# Altium schematic symbol library Miscellaneous Devices.SchLib: 205 symbols (part 3 of 3)
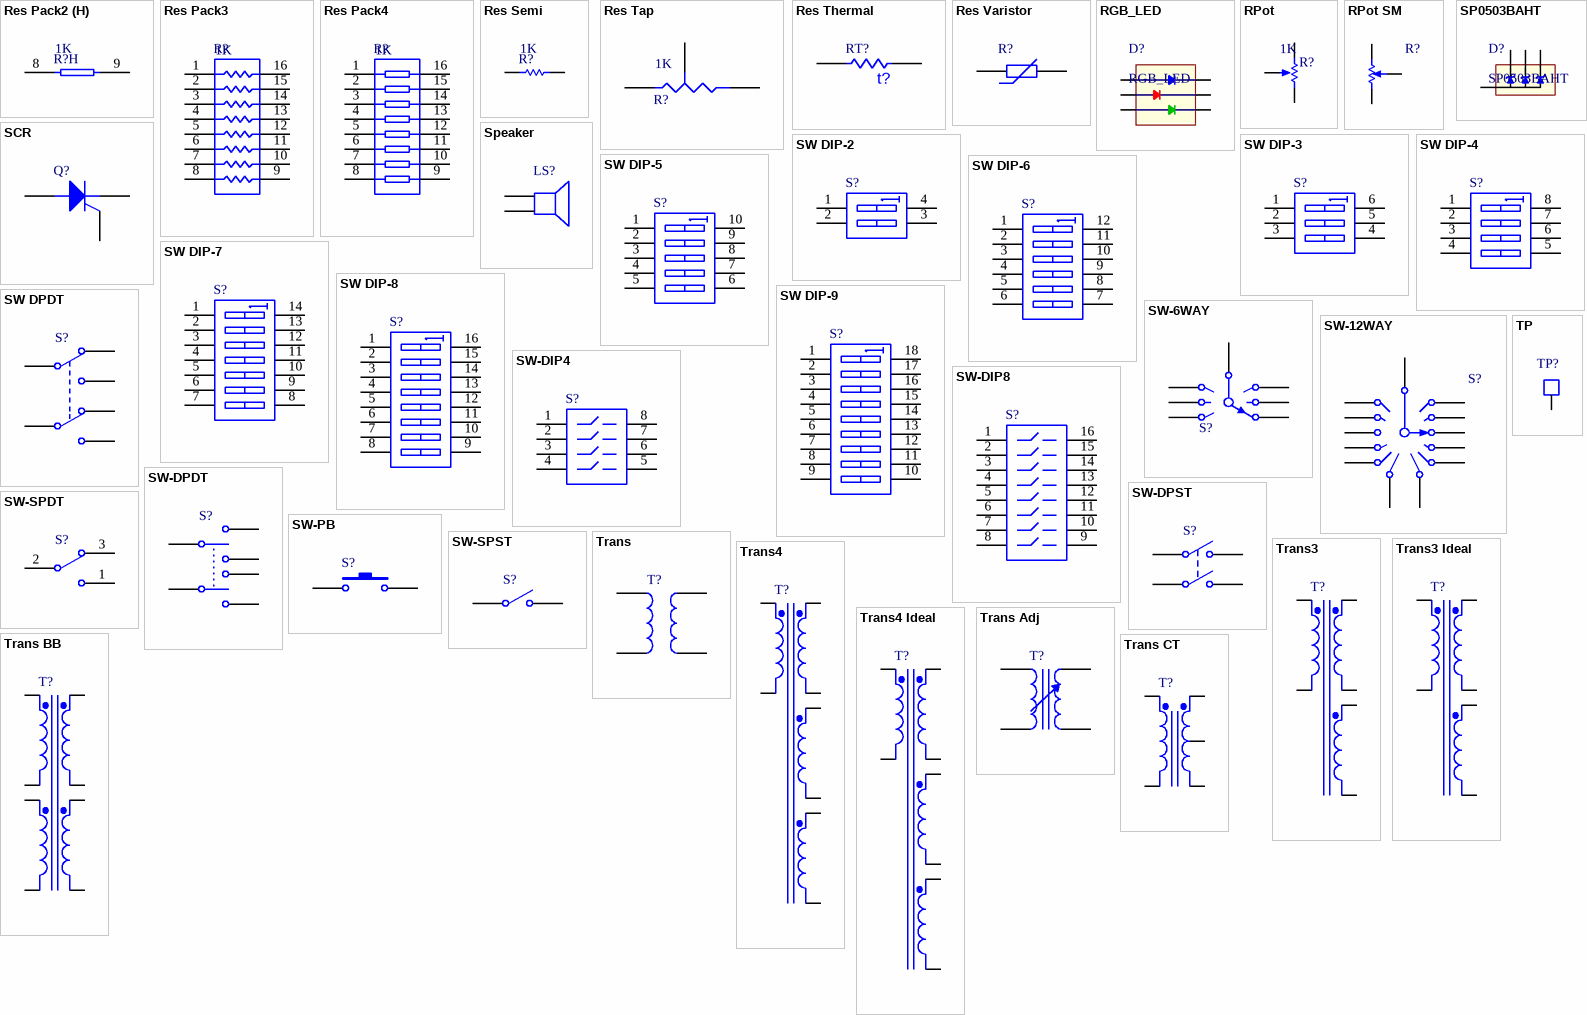
[diagram p7: symbols Res Pack2 to Trans CT]

## Trans3 Ideal
designator T?
Three-winding Transformer (Ideal); Published: 25-Jan-2001; LatestRevisionDate: 17-Jul-2002; LatestRevisionNote: Re-released for DXP Platform.; PackageReference: TRF_6; Publisher: Altium Limited; PackageDescription: Transformer; 6 Leads
footprint TRF_6 (Transformer; 6 Leads)
simulation model IDEAL3W (Spice Subcircuit)
pins: 1 Pri+, 2 Pri-, 3 Sec1+, 4 Sec1-, 5 Sec2+, 6 Sec2-

## Trans4
designator T?
Four-winding Transformer (Non-Ideal); Sim Note: Enter the turns ratios, Core loss resistance, Magnetising Reactance, Leakage Reactances and Resistances referred to the primary side into the parameter fields.; Published: 25-Jan-2001; LatestRevisionDate: 17-Jul-2002; LatestRevisionNote: Re-released for DXP Platform.; PackageReference: TRF_8; Publisher: Altium Limited; PackageDescription: Transformer; 8 Leads
footprint TRF_8 (Transformer; 8 Leads)
simulation model NI4WTRANS (Spice Subcircuit)
pins: 1 Pri+, 2 Pri-, 3 Sec1+, 4 Sec1-, 5 Sec2+, 6 Sec2-, 7 Sec3+, 8 Sec3-

## Trans4 Ideal
designator T?
Four-winding Transformer (Ideal); Published: 25-Jan-2001; LatestRevisionDate: 17-Jul-2002; LatestRevisionNote: Re-released for DXP Platform.; PackageReference: TRF_8; Publisher: Altium Limited; PackageDescription: Transformer; 8 Leads
footprint TRF_8 (Transformer; 8 Leads)
simulation model IDEAL4W (Spice Subcircuit)
pins: 1 Pri+, 2 Pri-, 3 Sec1+, 4 Sec1-, 5 Sec2+, 6 Sec2-, 7 Sec3+, 8 Sec3-

## Trans Adj
designator T?
Variable Transformer; Published: 24-Mar-1999; LatestRevisionDate: 17-Jul-2002; LatestRevisionNote: Re-released for DXP Platform.; PackageReference: TRF_4; Publisher: Altium Limited; PackageDescription: Transformer; 4 Leads
footprint TRF_4 (Transformer; 4 Leads)
simulation model TRANSFORMER (Transformer)
pins: 1, 2, 3, 4

## Trans BB
designator T?
Buck-boost Transformer (Ideal); Published: 25-Jan-2001; LatestRevisionDate: 17-Jul-2002; LatestRevisionNote: Re-released for DXP Platform.; PackageReference: TRF_8; Publisher: Altium Limited; PackageDescription: Transformer; 8 Leads
footprint TRF_8 (Transformer; 8 Leads)
simulation model IDEAL4W (Spice Subcircuit)
pins: 1 Pri1+, 2 Pri1-, 3 Pri2+, 4 Pri2-, 5 Sec1+, 6 Sec1-, 7 Sec2+, 8 Sec2-

## Trans CT
designator T?
Center-Tapped Transformer (Coupled Inductor Model); Published: 8-Jun-2000; LatestRevisionDate: 17-Jul-2002; LatestRevisionNote: Re-released for DXP Platform.; PackageReference: TRF_5; Publisher: Altium Limited; PackageDescription: Transformer; 5 Leads
footprint TRF_5 (Transformer; 5 Leads)
simulation model TRANSFORMER (Transformer)
pins: 1 Pri+, 2 Pri-, 3 Sec+, 4 SecCT, 5 Sec-

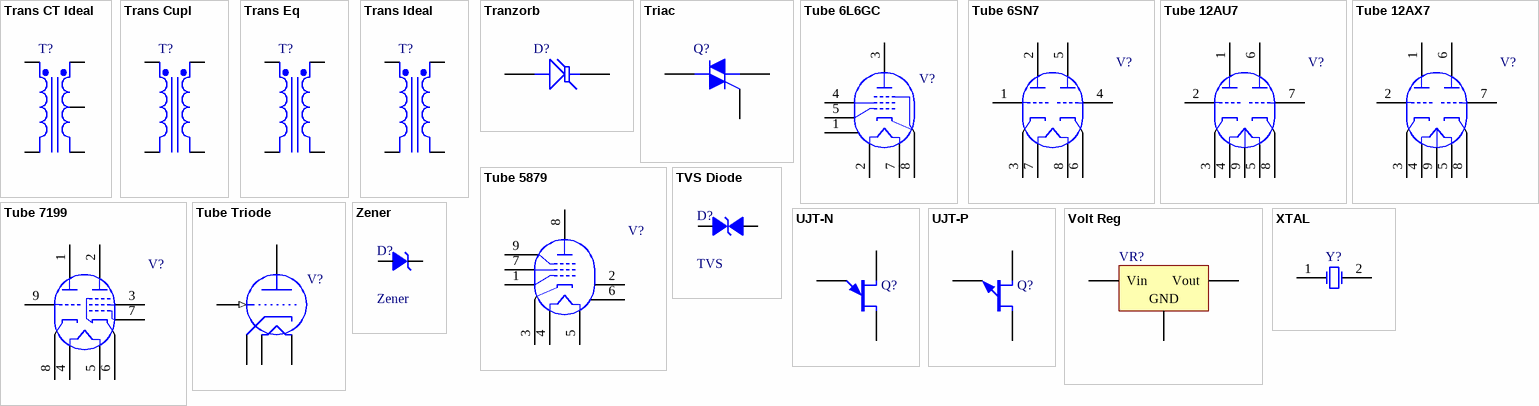
[diagram p5: symbols Trans CT Ideal to Zener]

## Trans CT Ideal
designator T?
Center-Tapped Transformer (Ideal); Published: 8-Jun-2000; LatestRevisionDate: 17-Jul-2002; LatestRevisionNote: Re-released for DXP Platform.; PackageReference: TRF_5; Publisher: Altium Limited; PackageDescription: Transformer; 5 Leads
footprint TRF_5 (Transformer; 5 Leads)
simulation model IDEALTRANSCT (Spice Subcircuit)
pins: 1 Pri+, 2 Pri-, 3 Sec+, 4 SecCT, 5 Sec-

## Trans Cupl
designator T?
Transformer (Coupled Inductor Model); Published: 8-Jun-2000; LatestRevisionDate: 17-Jul-2002; LatestRevisionNote: Re-released for DXP Platform.; PackageReference: TRF_4; Publisher: Altium Limited; PackageDescription: Transformer; 4 Leads
footprint TRF_4 (Transformer; 4 Leads)
simulation model TRANSFORMER (Transformer)
pins: 1 Pri+, 2 Pri-, 3 Sec+, 4 Sec-

## Trans Eq
designator T?
Transformer (Equivalent Circuit Model); Published: 8-Jun-2000; LatestRevisionDate: 17-Jul-2002; LatestRevisionNote: Re-released for DXP Platform.; PackageReference: TRF_4; Publisher: Altium Limited; PackageDescription: Transformer; 4 Leads
footprint TRF_4 (Transformer; 4 Leads)
simulation model TRANS (Spice Subcircuit)
pins: 1 Pri+, 2 Pri-, 3 Sec+, 4 Sec-

## Trans Ideal
designator T?
Transformer (Ideal); Published: 8-Jun-2000; LatestRevisionDate: 17-Jul-2002; LatestRevisionNote: Re-released for DXP Platform.; PackageReference: TRF_4; Publisher: Altium Limited; PackageDescription: Transformer; 4 Leads
footprint TRF_4 (Transformer; 4 Leads)
simulation model IDEALTRANS (Spice Subcircuit)
pins: 1 Pri+, 2 Pri-, 3 Sec+, 4 Sec-

## Tranzorb
designator D?
Transient Voltage Suppression (TVS) Diode; Published: 24-Mar-1999; LatestRevisionDate: 17-Jul-2002; LatestRevisionNote: Re-released for DXP Platform.; PackageReference: DO-7; Publisher: Altium Limited; PackageDescription: Axial Lead Diode
footprint DO-7 (Diode, Axial; Body 7 x 2.7 mm (LxDia. max), Lead Dia. 0.53 mm (max))
pins: 1 A, 2 K

## Triac
designator Q?
Silicon Bidirectional Triode Thyristor; Note: Pin 2 is electrically connected to Pin 4 (TAB); Published: 29-Sep-2000; LatestRevisionDate: 17-Jul-2002; LatestRevisionNote: Re-released for DXP Platform.; DatasheetVersion: 1999; PackageReference: 369-03; Publisher: Altium Limited; PackageDescription: TO, Thru-Hole, Vertical, Heatsink Mounted; 3 In-Line Leads; Pitch 2.28 mm; ComponentLink1Description: Manufacturer Link; ComponentLink1URL: http://www.motorola.com/
footprint 369-03 (TO, Thru-Hole, Vertical, Heatsink Mounted; 3 In-Line Leads; Pitch 2.28 mm)
simulation model MAC15A8 (Spice Subcircuit)
pins: 1 M1, 2 M2, 3 G

## Tube 6L6GC
designator V?
Beam Power Pentode; Note: Pin 6 is omitted from the tube package, Pin 1 is Not Connected; Published: 8-Jun-2000; LatestRevisionDate: 17-Jul-2002; LatestRevisionNote: Re-released for DXP Platform.; PackageReference: VTUBE-7; Publisher: Altium Limited; PackageDescription: Vacuum Tube; 7 Leads
footprint VTUBE-7 (Vacuum Tube; 7 Leads)
simulation model 6L6GC (Spice Subcircuit)
pins: 1 NC, 2 H, 3 PT, 4 GT2, 5 GT1, 7 H, 8 G3, KT

## Tube 6SN7
designator V?
Medium Mu Dual Triode; Published: 8-Jun-2000; LatestRevisionDate: 17-Jul-2002; LatestRevisionNote: Re-released for DXP Platform.; PackageReference: VTUBE-8; Publisher: Altium Limited; PackageDescription: Vacuum Tube; 8 Leads
footprint VTUBE-8 (Vacuum Tube; 8 Leads)
simulation model 6SN7 (Spice Subcircuit)
pins: 1 GT1, 2 PT1, 3 KT1, 4 GT2, 5 PT2, 6 KT2, 7 H, 8 H

## Tube 12AU7
designator V?
Medium Mu Dual Triode; Published: 8-Jun-2000; LatestRevisionDate: 17-Jul-2002; LatestRevisionNote: Re-released for DXP Platform.; PackageReference: VTUBE-9; Publisher: Altium Limited; PackageDescription: Vacuum Tube; 9 Leads
footprint VTUBE-9 (Vacuum Tube; 9 Leads)
simulation model 12AU7 (Spice Subcircuit)
pins: 1 PT1, 2 GT1, 3 KT1, 4 H, 5 H, 6 PT2, 7 GT2, 8 KT2, 9 HM

## Tube 12AX7
designator V?
High Mu Dual Triode; Published: 8-Jun-2000; LatestRevisionDate: 17-Jul-2002; LatestRevisionNote: Re-released for DXP Platform.; PackageReference: VTUBE-9; Publisher: Altium Limited; PackageDescription: Vacuum Tube; 9 Leads
footprint VTUBE-9 (Vacuum Tube; 9 Leads)
simulation model 12AX7 (Spice Subcircuit)
pins: 1 PT1, 2 GT1, 3 KT1, 4 H, 5 H, 6 PT2, 7 GT2, 8 KT2, 9 HM

## Tube 5879
designator V?
Sharp Cutoff Pentode; Note: Pins 2 and 6 are not connected.; Published: 8-Jun-2000; LatestRevisionDate: 17-Jul-2002; LatestRevisionNote: Re-released for DXP Platform.; PackageReference: VTUBE-9; Publisher: Altium Limited; PackageDescription: Vacuum Tube; 9 Leads
footprint VTUBE-9 (Vacuum Tube; 9 Leads)
pins: 1 GT1, 2 NC, 3 KT, 4 H, 5 H, 6 NC, 7 GT2, 8 PT, 9 GT3

## Tube 7199
designator V?
Medium Mu Triode and Sharp Cutoff Pentode; Published: 8-Jun-2000; LatestRevisionDate: 17-Jul-2002; LatestRevisionNote: Re-released for DXP Platform.; PackageReference: VTUBE-9; Publisher: Altium Limited; PackageDescription: Vacuum Tube; 9 Leads
footprint VTUBE-9 (Vacuum Tube; 9 Leads)
simulation model 7199 (Spice Subcircuit)
pins: 1 PT1, 2 PT2, 3 GT2, 4 H, 5 H, 6 KT2, 7 GT3, 8 KT1, 9 GT1

## Tube Triode
designator V?
Thyratron; Published: 24-Mar-1999; LatestRevisionDate: 17-Jul-2002; LatestRevisionNote: Re-released for DXP Platform.; PackageReference: VTUBE-5; Publisher: Altium Limited; PackageDescription: Vacuum Tube; 5 Leads
footprint VTUBE-5 (Vacuum Tube; 5 Leads)
pins: 1 GRID (in), 2 PLATE, 3 CATHODE, 4 FILAMENT1, 5 FILAMENT2

## TVS Diode
designator D?, comment TVS
TVS Diode; Published: 8-Jun-2000; LatestRevisionDate: 17-Jul-2002; LatestRevisionNote: Re-released for DXP Platform.; PackageReference: DIODE-0.7; Publisher: Altium Limited; PackageDescription: Diode, Thru-Hole; 2 Leads; 0.7 in Pin Spacing
footprint DIODE-0.7 (Diode, Thru-Hole; 2 Leads; 0.7 in Pin Spacing)
simulation model ZENER (Diode)
signal-integrity model D Zener
pins: 1, 2

## UJT-N
designator Q?
Unijunction Transistor with N-Type Base; Published: 8-Jun-2000; LatestRevisionDate: 17-Jul-2002; LatestRevisionNote: Re-released for DXP Platform.; PackageReference: TO-39; Publisher: Altium Limited; PackageDescription: Can; 3 Leads; Pin Circle Dia. 5.08 mm; Lead Dia. 0.48 mm (max); Code_JEDEC: TO-205-AF
footprint TO-39 (Can; 3 Leads; Pin Circle Dia. 5.08 mm; Lead Dia. 0.48 mm (max))
simulation model NUJT (Spice Subcircuit)
pins: 1 E, 2 B1, 3 B2

## UJT-P
designator Q?
Unijunction Transistor with P-Type Base; Published: 24-Mar-1999; LatestRevisionDate: 17-Jul-2002; LatestRevisionNote: Re-released for DXP Platform.; PackageReference: TO-205AF; Publisher: Altium Limited; PackageDescription: Can; 3 Leads; Pin Circle Dia. 5.08 mm; Lead Dia. 0.53 mm (max); Code_JEDEC: TO-205-AF
footprint TO-205AF (Can; 3 Leads; Pin Circle Dia. 5.08 mm; Lead Dia. 0.53 mm (max))
pins: 1 E, 2 B1, 3 B2

## Volt Reg
designator VR?
Voltage Regulator; Published: 24-Mar-1999; LatestRevisionDate: 29-May-2009; LatestRevisionNote: IPC-7351 Footprint Added.; PackageReference: D2PAK; Publisher: Altium Limited; PackageDescription: 3-Pin Transistor Outline Package 2.54 mm Pitch, 15.1 mm Lead Span
footprint D2PAK_N (D2-PAK, 4-Leads, Body 8.8x10.4mm, Pitch 2.54mm, Lead Span 15.1mm, IPC Medium Density)
footprint D2PAK_L (D2-PAK, 4-Leads, Body 8.8x10.4mm, Pitch 2.54mm, Lead Span 15.1mm, IPC High Density)
footprint D2PAK_M (D2-PAK, 4-Leads, Body 8.8x10.4mm, Pitch 2.54mm, Lead Span 15.1mm, IPC Low Density)
pins: 1 Vin, 2 GND, 3 Vout

## XTAL
designator Y?
Crystal Oscillator; Published: 8-Jun-2000; LatestRevisionDate: 17-Jul-2002; LatestRevisionNote: Re-released for DXP Platform.; PackageReference: R38; Publisher: Altium Limited; PackageDescription: Crystal, Thru-Hole; 2 Leads; Body 3.1 x 8.2 mm (Dia.xH)
footprint R38 (Crystal, Thru-Hole; 2 Leads; Body 3.1 x 8.2 mm (Dia.xH))
simulation model XTAL (Spice Subcircuit)
pins: 1 OSC1, 2 OSC2

## Zener
designator D?
Zener Diode; Published: 8-Jun-2000; LatestRevisionDate: 17-Jul-2002; LatestRevisionNote: Re-released for DXP Platform.; PackageReference: DIODE-0.7; Publisher: Altium Limited; PackageDescription: Diode, Thru-Hole; 2 Leads; 0.7 in Pin Spacing
footprint DIODE-0.7 (Diode, Thru-Hole; 2 Leads; 0.7 in Pin Spacing)
simulation model ZENER (Diode)
signal-integrity model D Zener
pins: 1, 2